# Altium footprint library dfn_10_p50_300x200x80_l40x25_t239x64.PcbLib: 1 footprints
Each footprint in its own frame and in the unit in brackets; x right, y up, seen from the top. Pads: shape width x height; smd on the part's side, far side on the other; paste and mask are expansions set on the pad; w line width, h text height; cw(c..) or ccw(c..) is an arc to the next point about the centre after c.
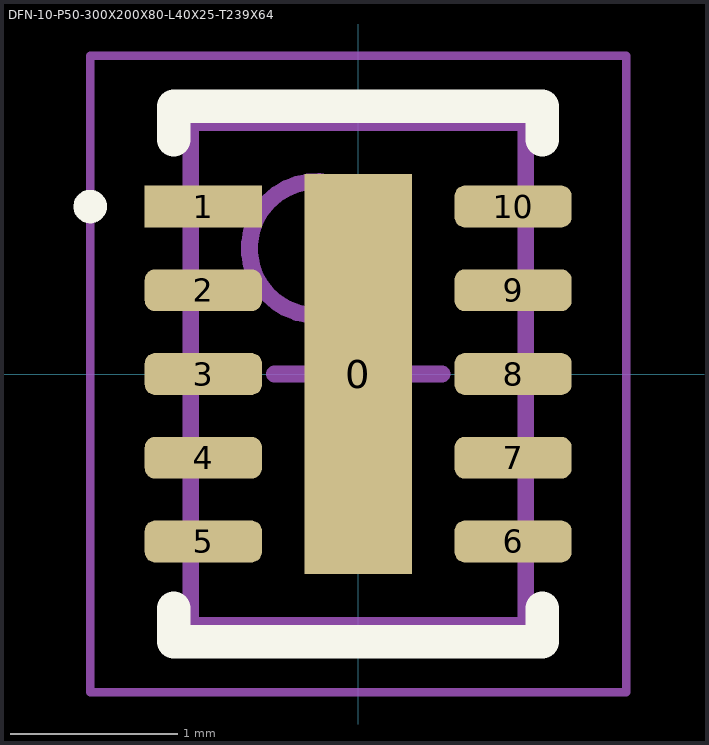
[diagram p0: the footprint, top view; thin cyan lines are the x and y axes]

## DFN-10-P50-300X200X80-L40X25-T239X64 [mm] "DFN, 10-Leads, Body 3,00x2,00mm, Pitch 0,50mm, Thermal Pad 2.39x0,64mm, IPC Medium Density"
height 0.8
pads (11):
  rect 0.64x2.39 smd: 0(0,0)
  rect 0.7x0.25 smd: 1(-0.925,1)
  rrect50% 0.7x0.25 smd: 2(-0.925,0.5) 3(-0.925,0) 4(-0.925,-0.5) 5(-0.925,-1) 6(0.925,-1) 7(0.925,-0.5) 8(0.925,0) 9(0.925,0.5) 10(0.925,1)
Top Overlay:
  circle w0.1: c-1.6,1 r0.05
  lines w0.2: -1.1,-1.4 -1.1,-1.6 1.1,-1.6 1.1,-1.4 ; -1.1,1.4 -1.1,1.6 1.1,1.6 1.1,1.4
Top Comment:
  text ".Comment" at 1,2 h1.2
Top Designator:
  text ".Designator" at -0.5,2 h1.2
Top Component Outline:
  circle w0.1: c-0.25,0.75 r0.4
  lines w0.1: -1,-1.5 1,-1.5 1,1.5 -1,1.5 -1,-1.5
Top Courtyard (Mech15):
  lines w0.05: -1.6,-1.9 1.6,-1.9 1.6,1.9 -1.6,1.9 -1.6,-1.9
  lines w0.1: -0.5,0 0.5,0 ; 0,-0.5 0,0.5
3D body "DFN-10.STEP": height 0.8, standoff 0, extent -1,-1.5 1,1.5